# Altium footprint library Displays Backlight.PcbLib: 1 footprints
Each footprint in its own frame and in the unit in brackets; x right, y up, seen from the top. Pads: shape width x height; smd on the part's side, far side on the other; paste and mask are expansions set on the pad; w line width, h text height; cw(c..) or ccw(c..) is an arc to the next point about the centre after c.
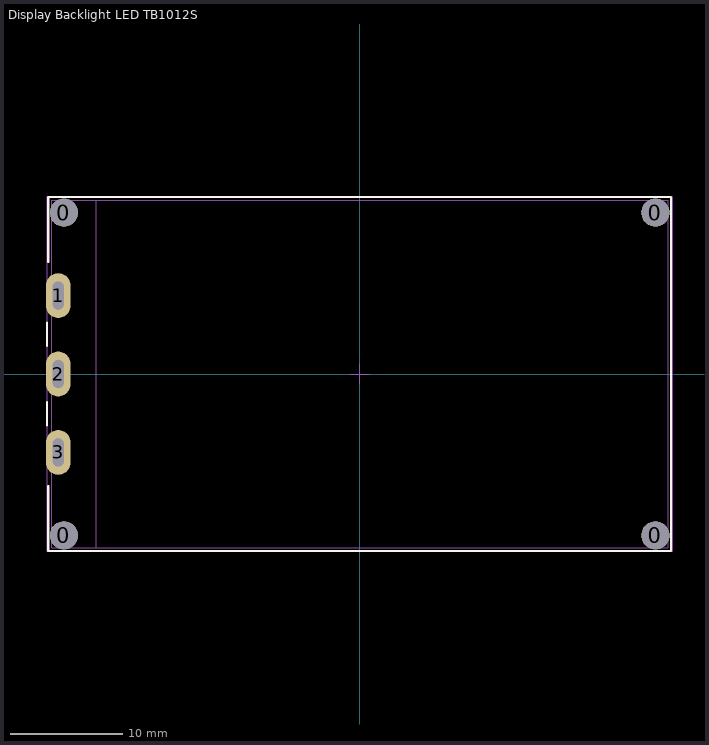
[diagram p0: the footprint, top view; thin cyan lines are the x and y axes]

## Display Backlight LED TB1012S [mm]
height 3.2
pads (7):
  round 2.5 hole 2.5 unplated paste+0 mask+0: 0(-26.4,-14.4) 0(-26.4,14.4) 0(26.4,-14.4) 0(26.4,14.4)
  oval 2.2x4 hole 1 slot 2.5 at 90 deg: 1(-26.9,7) 2(-26.9,0) 3(-26.9,-7)
Top Overlay:
  lines w0.2: -27.9,-4.6 -27.9,-2.5 ; -27.9,2.5 -27.9,4.6 ; -27.8,-10 -27.8,-15.8 27.8,-15.8 27.8,15.8 -27.8,15.8 -27.8,10
Top Package:
  circle w0.1: c-26.4,14.4 r1
  circle w0.1: c26.4,-14.4 r1
  circle w0.1: c26.4,14.4 r1
  circle w0.1: c-26.4,-14.4 r1
  lines w0.1: -23.5,-15.5 -23.5,15.5 ; -27.5,-15.5 -27.5,15.5 27.5,15.5 27.5,-15.5 -27.5,-15.5 ; -27.2,-7.8 -26.6,-7.8 -26.6,-6.1 -27.2,-6.1 -27.2,-7.8 ; -27.2,-0.8 -27.2,0.9 -26.6,0.9 -26.6,-0.8 -27.2,-0.8 ; -27.2,6.2 -26.6,6.2 -26.6,7.9 -27.2,7.9 -27.2,6.2
Top Border:
  lines w0.1: -0.895,0 0.905,0 ; 0.005,-0.9 0.005,0.9 ; -27.9,-15.8 -27.9,15.8 27.9,15.8 27.9,-15.8 -27.9,-15.8
3D body: height 3, standoff -1.8, extent -2,0 -2,0
3D body: height 0.25, standoff 0, extent -2,0 -2,0
3D body "DISP BKL LED TB1012S.stp": height 3, standoff -1.8, extent -27.5,-15.5 27.5,15.5